# Altium footprint library vlc_ctrl.PcbLib: 9 footprints
Each footprint in its own frame and in the unit in brackets; x right, y up, seen from the top. Pads: shape width x height; smd on the part's side, far side on the other; paste and mask are expansions set on the pad; w line width, h text height; cw(c..) or ccw(c..) is an arc to the next point about the centre after c.
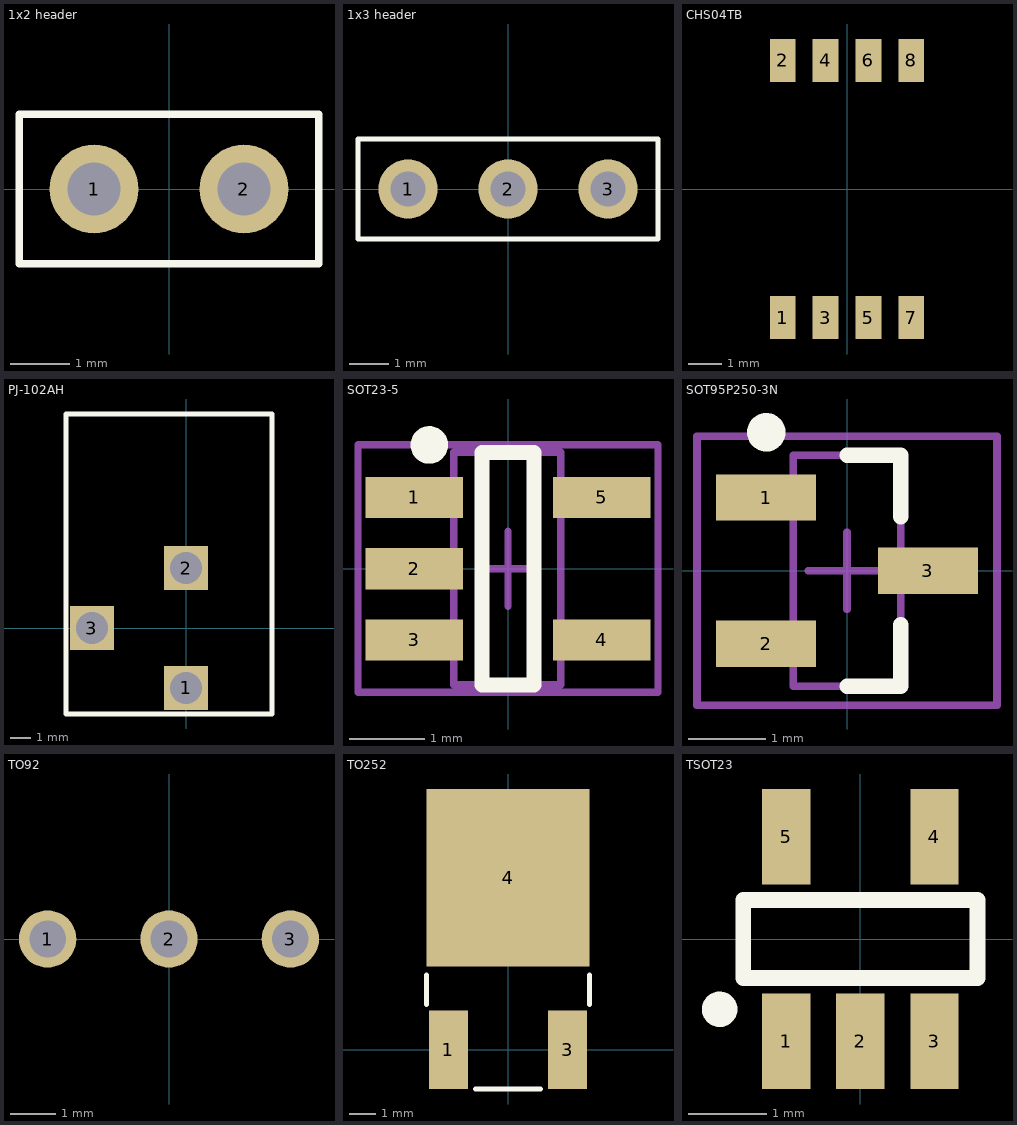
[diagram p0: the footprints below, top view; thin cyan lines are the x and y axes]

## 1x2 header [mm] "1x2 header, 100 mils"
pads (2):
  round 1.5 hole 0.9: 1(-1.27,0) 2(1.27,0)
Top Overlay:
  lines w0.127: -2.54,-1.27 -2.54,1.27 2.54,1.27 2.54,-1.27 -2.54,-1.27
3D body: height 2.54, standoff 0, extent -2.53,-1.26 2.53,1.26
3D body: height 8.38, standoff -1.52, extent -1.575,-0.305 -0.965,0.305
3D body: height 8.38, standoff -1.52, extent 0.965,-0.305 1.575,0.305

## 1x3 header [mm] "1x3 header, 100 mils"
pads (3):
  round 1.5 hole 0.9: 1(-2.54,0) 2(0,0) 3(2.54,0)
Top Overlay:
  lines w0.127: -3.81,-1.27 3.81,-1.27 3.81,1.27 -3.81,1.27 -3.81,-1.27
3D body: height 8.38, standoff -1.52, extent 2.235,-0.305 2.845,0.305
3D body: height 8.38, standoff -1.52, extent -0.305,-0.305 0.305,0.305
3D body: height 8.38, standoff -1.52, extent -2.845,-0.305 -2.235,0.305
3D body: height 2.54, standoff 0, extent -3.8,-1.25 3.8,1.25

## CHS04TB [mm] "4 POS DIP SWITCH"
pads (8):
  rect 0.76x1.27 smd: 1(-1.905,-3.81) 2(-1.905,3.81) 3(-0.635,-3.81) 4(-0.635,3.81) 5(0.635,-3.81) 6(0.635,3.81) 7(1.905,-3.81) 8(1.905,3.81)

## PJ-102AH [mm] "Power Jack"
pads (3):
  rect 2.2x2.2 hole 1.6: 1(0,-3) 2(0,3) 3(-4.7,0)
Top Overlay:
  lines w0.254: -6,-4.3 4.3,-4.3 4.3,10.7 -6,10.7 -6,0 -6,-4.3
3D body: height 10, standoff 0, extent -5.75,9.15 4.075,10.888
3D body: height 8.39, standoff 0.01, extent -4.975,-3.85 3.392,9.15
3D body: height 3, standoff 0, extent -5.75,-3.987 4.075,10.888

## SOT23-5 [mm] "SOT23, 5-Leads, Body 2.9x1.6mm, Pitch 0.95mm, Lead Span 2.8mm, IPC High Density"
height 1.45
pads (5):
  rect 1.3x0.55 smd: 1(-1.25,0.95) 2(-1.25,0) 3(-1.25,-0.95) 4(1.25,-0.95) 5(1.25,0.95)
Top Overlay:
  circle w0.25: c-1.05,1.65 r0.125
  lines w0.2: -0.35,-1.55 -0.35,1.55 0.35,1.55 0.35,-1.55 -0.35,-1.55
Mechanical 13:
  lines w0.1: -0.725,-1.55 0.7,-1.55 0.7,1.55 -0.725,1.55 -0.725,-1.55
Mechanical 15:
  lines w0.1: -0.375,0 0.35,0 ; 0,-0.5 0,0.5 ; -2,-1.65 2,-1.65 2,1.65 -2,1.65 -2,-1.65
3D body: height 1.45, standoff 0, extent -0.675,-1.5 0.65,1.5

## SOT95P250-3N [mm] "SOT23, 3-Leads, Body 2.9x1.3mm, Pitch 0.95mm, Lead Span 2.3mm, IPC Medium Density"
height 1.2
pads (3):
  rect 1.3x0.6 smd: 1(-1.05,0.95) 2(-1.05,-0.95) 3(1.05,0)
Top Overlay:
  circle w0.25: c-1.05,1.8 r0.125
  lines w0.2: 0,-1.5 0.7,-1.5 0.7,-0.7 ; 0,1.5 0.7,1.5 0.7,0.7
Mechanical 13:
  lines w0.1: -0.7,-1.5 -0.7,1.5 0.7,1.5 0.7,-1.5 -0.7,-1.5
Mechanical 15:
  lines w0.1: -0.5,0 0.5,0 ; 0,-0.5 0,0.5 ; -1.95,-1.75 -1.95,1.75 1.95,1.75 1.95,-1.75 -1.95,-1.75
3D body: height 1.2, standoff 0, extent -0.7,-1.5 0.7,1.5

## TO92 [mm]
pads (3):
  round 1.25 hole 0.8: 1(-2.65,0) 2(0,0) 3(2.65,0)

## TO252 [mm] "TO252-3"
pads (3):
  rect 1.5x3 smd: 1(-2.286,0) 3(2.286,0)
  rect 6.25x6.8 smd: 4(0,6.6)
Top Overlay:
  lines w0.2: -3.125,1.75 -3.125,2.875 ; -1.25,-1.5 1.25,-1.5 ; 3.125,1.75 3.125,2.875
3D body: height 2.3, standoff 0, extent -3.3,2.975 3.3,9.075

## TSOT23 [mm]
pads (5):
  rect 0.62x1.22 smd: 1(-0.95,-1.31) 2(0,-1.31) 3(0.95,-1.31) 4(0.95,1.31) 5(-0.95,1.31)
Top Overlay:
  circle w0.254: c-1.8,-0.9 r0.1
  lines w0.2: -1.5,-0.5 -1.5,0.5 1.5,0.5 1.5,-0.5 -1.5,-0.5